# Altium schematic symbol library ISO.SchLib: 65 symbols
Pins are listed as number, name and electrical type; pins without a type are passive.

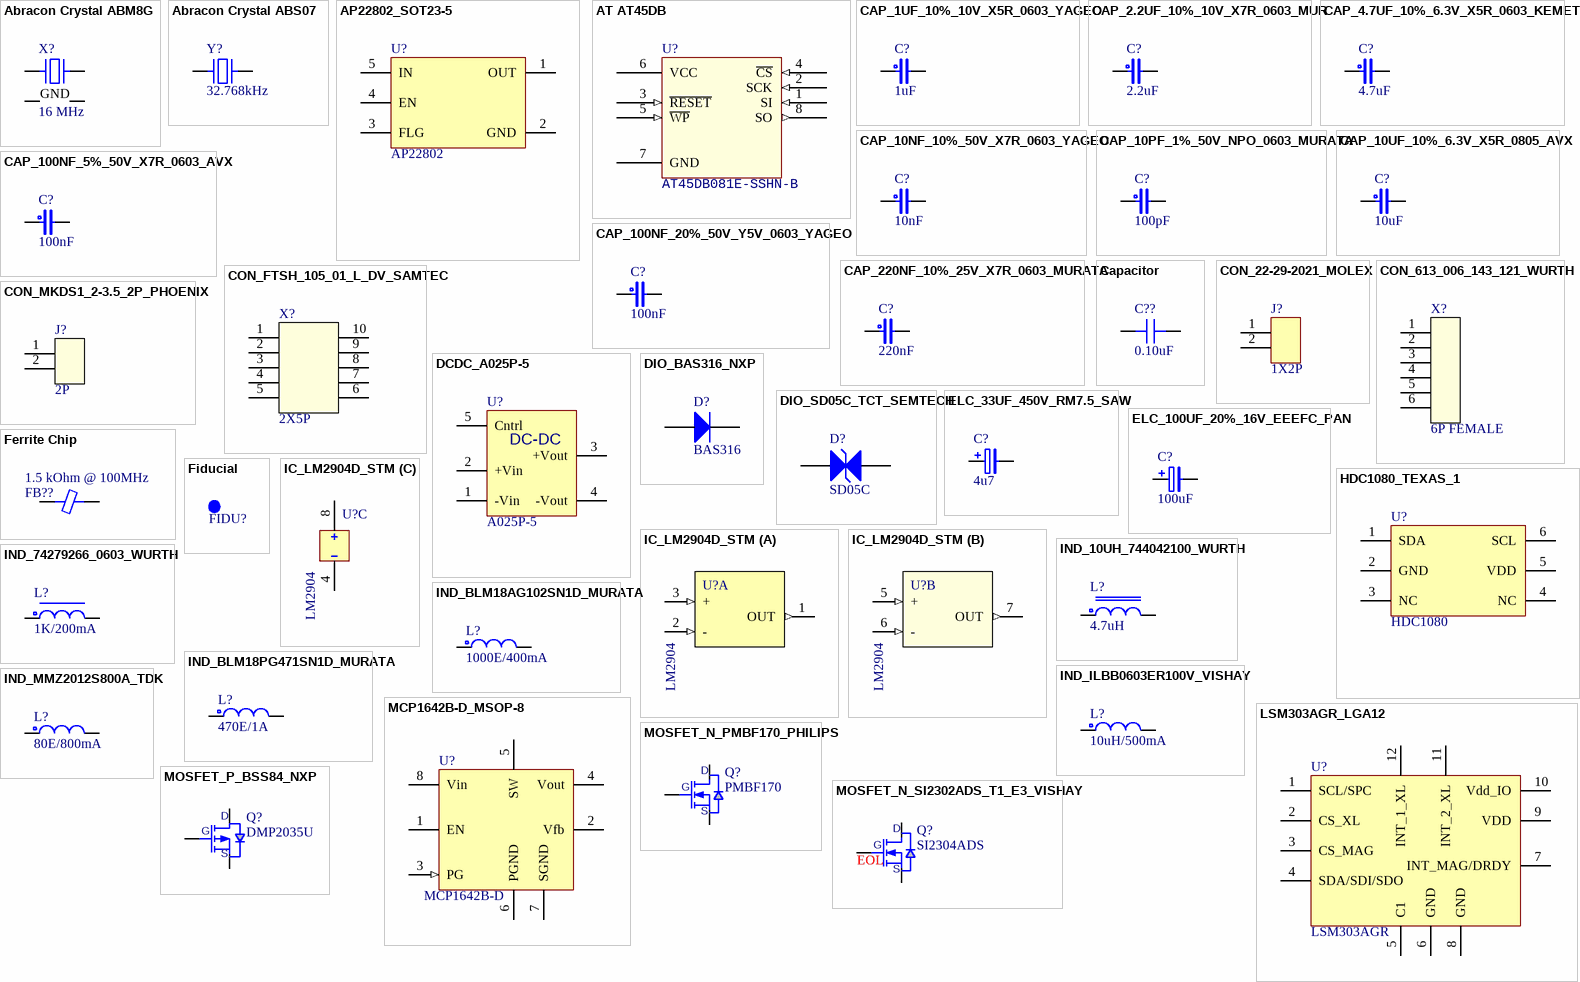
[diagram p0: symbols Abracon Crystal ABM8G to MOSFET_P_BSS84_NXP]

## Abracon Crystal ABM8G
designator X?, comment 16 MHz
CRYSTAL 16.0000MHZ 18PF SMD; Part Number: ABM8G-16.000MHZ-18-D2Y-T
footprint ABRACON ABM8G
pins: 1, 2 GND, 3, 4 GND

## Abracon Crystal ABS07
designator Y?, comment 32.768kHz
CRYSTAL 32.7680KHZ 7PF SMD; Part Number: ABS07-32.768KHZ-7-T; Manufacturer: Abracon LLC; Frequency Tolerance: 20ppm; ESR: 70 kOhm; Operating Mode: Fundamental; PartId: 8488; Supplier 1: Digi-Key; Supplier Part Number 1: 535-9543-2-ND; ComponentLink1Description: Datasheet; ComponentLink1URL: http://www.abracon.com/Resonators/ABS07.pdf; ComponentLink2Description: Digi-Key Listing; ComponentLink2URL: http://www.digikey.com/product-detail/en/ABS07-32.768KHZ-7-T/535-9543-2-ND/1236859; Price: 0.3375; Type: kHz Crystal (Tuning Fork); Device Package: 2-SMD; Frequency: 32.768kHz; Frequency Stability: -; Load Capacitance: 7pF
footprint ABRACON ABS07
pins: 1, 2

## AP22802_SOT23-5
designator U?, comment AP22802
DIODES_AP22802_SOT23-5_TIN; ID: 260667; Altium Class: AAA058; UAC Item Group: ICSLIN; MFG: TIN; LCM Status: Mature; Item Ready: Yes; ArtGrpDescription: ICs; Pitch: 0.95; Description Full: 3.3V FIXED POSITIVE LDO REGULATOR  0.21V DROPOUT  PDSO5; Function: Diodes; NContacts: 5; MFO: AP22802; MFP: AP22802; ROHS: Yes; Mount: SMT; Value: AP22802; Case: SOT23-; Height: 1.45mm; Length: 3.05; Width: 1.75
footprint SOT95P280X145-5X60Y110C260N
pins: 1 OUT, 2 GND (power), 3 FLG, 4 EN, 5 IN (power)

## AT AT45DB
designator U?  Part Number: AT45DB081E-SSHN-B  (hidden comment: AT AT45DB)
8Mbit DataFlash; Manufacturer: Adesto Technologies; PartId: 2469; Supplier 1: Farnell; Supplier Part Number 1: 2414321
footprint SOIC-8
pins: 1 SI (in), 2 SCK (in), 3 ~{RESET} (in), 4 ~{CS} (in), 5 ~{WP} (in), 6 VCC (power), 7 GND (power), 8 SO (out)

## CAP_1UF_10%_10V_X5R_0603_YAGEO
designator C?, comment 1uF
CAPACITORS X5R 10V 0603 10%; Manufacturer: YAGEO; UAC: 412415758; Bin_no: CC0603KRX5R6BB105; Revision: 12-12-2011; Material: X5R; Tolerance: 10%; Voltage: 10V; Value: 1uF; Package: 0603; Status: CHECKED; Created by: WB
footprint CAPC1608X90X95Y100C150N (Chip Capacitor, 2-Leads, Body 1.6x0.8mm, IPC Medium Density)
pins: 1, 2

## CAP_2.2UF_10%_10V_X7R_0603_MUR
designator C?, comment 2.2uF
CAPACITORS X7R  10V 0603 +/- 10%; Manufacturer: MURATA; UAC: 412343884; Bin_no: GRM188R71A225KE15B; Revision: 29-11-2010; Material: X7R; Tolerance: 10%; Value: 2.2uF; Package: 0603; Status: CHECKED; Created by: CW; Voltage: 10V
footprint CAPC1608X90X95Y90C150N (Chip Capacitor, 2-Leads, Body 1.6x0.8mm, IPC Medium Density)
pins: 1, 2

## CAP_4.7UF_10%_6.3V_X5R_0603_KEMET
designator C?, comment 4.7uF
CAPACITORS X5R 6.3V 0603 +/- 10%; Manufacturer: KEMET; UAC: 412389370; Bin_no: C0603C475K9-PAC; Revision: 25-06-2010; Material: X5R; Voltage: 6.3V; Value: 4.7uF; Status: CHECKED; Package: 0603; Tolerance: 10%
footprint CAPC1608X90X100Y95C160N (Footprint not found)
pins: 1, 2

## CAP_10NF_10%_50V_X7R_0603_YAGEO
designator C?, comment 10nF
CAPACITORS X7R  50V 0603 +/- 10%; Manufacturer: YAGEO; UAC: 411414189; Shape: 0603; Bin_no: 2238 586 15636; Revision: 18-04-2008; Material: X7R; Tolerance: 10%; Voltage: 50V; Value: 10nF; Status: CHECKED; Package: 0603; Created by: CW
footprint CAPC1608X85N (Chip Capacitor, Body 1.6x0.8mm, IPC Medium Density)
pins: 1, 2

## CAP_10PF_1%_50V_NPO_0603_MURATA
designator C?, comment 100pF
CAPACITORS NPO 50V  0603 +/- 1%; Manufacturer: MURATA; Material: NP0; UAC: 412342849; Bin_no: GQM1885C1H100FB01D; Revision: 28-03-2011; Voltage: 50V; Value: 100pF; Package: 0603; Status: CHECKED; Created by: FC; Tolerance: 1%
footprint CAPC1608X90X95Y90C150N (Chip Capacitor, 2-Leads, Body 1.6x0.8mm, IPC Medium Density)
pins: 1, 2

## CAP_10UF_10%_6.3V_X5R_0805_AVX
designator C?, comment 10uF
CAPACITORS X5R 6.3V 0805 +/- 10%; Manufacturer: AVX; UAC: 412158013; Bin_no: 08056D106KAT2A; Published: augustus 2007; Revision: 31-10-2007; Publisher: Neways; Material: X5R; Tolerance: 10%; Voltage: 6.3V; Value: 10uF; Package: 0805; Status: CHECKED
footprint CAPC2012X140N (Chip Capacitor, 2-Leads, Body 2.0x1.25mm, IPC Medium Density)
pins: 1, 2

## CAP_100NF_5%_50V_X7R_0603_AVX
designator C?, comment 100nF
CAPACITORS X7R 50V  0603 +/- 5%; Manufacturer: AVX; UAC: 412346854; Bin_no: 06035C104JAT2A; Revision: 31-07-2009; Material: X7R; Voltage: 50V; Value: 100nF; Package: 0603; Status: CHECKED; Created by: CW; Tolerance: 5%
footprint CAPC1608X90X100Y95C80N (Chip Capacitor, Body 1.6x0.6mm, IPC Medium Density)
pins: 1, 2

## CAP_100NF_20%_50V_Y5V_0603_YAGEO
designator C?, comment 100nF
CAPACITORS Y5V  50V 0603 +/- 10%; Manufacturer: YAGEO; Tolerance: 20%; UAC: 411519532; Bin_no: 2238 586 19712; Published: augustus 2007; Revision: 31-10-2007; Publisher: Neways; Material: Y5V; Voltage: 50V; Value: 100nF; Package: 0603; Status: CHECKED
footprint CAPC1608X85N (Chip Capacitor, Body 1.6x0.8mm, IPC Medium Density)
pins: 1, 2

## CAP_220NF_10%_25V_X7R_0603_MURATA
designator C?, comment 220nF
CAPACITORS X7R 25V 0603 +/- 10%; Manufacturer: MURATA; UAC: 412357782; Bin_no: GCM188R71E224KA55D; Revision: 04-09-2008; Material: X7R; Tolerance: 10%; Voltage: 25V; Value: 220nF; Package: 0603; Status: CHECKED
footprint CAPC1608X90N (Chip Capacitor, 2-Leads, Body 1.6x0.8mm, IPC Medium Density)
pins: 1, 2

## Capacitor
designator C??, comment 0.10uF
CAP CER 0.1UF 16V X7R 0603; Part Number: GCM188R71C104KA37D; Manufacturer: Murata Electronics North America; TemperatureRange: -55C ~ 125C; Tolerance: 10%; Value: 0.10uF; PartId: 13188; Supplier 1: Digi-Key; Supplier Part Number 1: 490-4774-2-ND; ComponentLink1Description: Datasheet; ComponentLink1URL: http://www.murata.com/~/media/webrenewal/support/library/catalog/products/capacitor/mlcc/c03e.ashx; ComponentLink2Description: Digi-Key Listing; ComponentLink2URL: https://www.digikey.com/product-detail/en/murata-electronics-north-america/GCM188R71C104KA37D/490-4774-2-ND/1641648; TemperatureCoefficient: X7R; Voltage: 16V; Price: 0.0126; Device Package: 0603 (1608 Metric)
footprint CAP 0603/1608
pins: 1, 2

## CON_22-29-2021_MOLEX
designator J?, comment 1X2P
KK HEADER PITCH 2.54MM 2P; Manufacturer: MOLEX; UAC: 412179803; Revision: 28-01-2013; Bin_no: 22-29-2021; Value: 1X2P; Status: CHECKED; Created by: FC; Package: CON_22-29-2021_2P_MOLEX
footprint CON_BSB2-JST-TH (2.0 mm PITCH WIRE-TO-BOARD HEADER)
pins: 1, 2

## CON_613_006_143_121_WURTH
designator X?, comment 6P FEMALE
2.54mm ANGLED SOCKET HEADER WR-PHD; Manufacturer: WURTH; UAC: 412360973; Bin_no: 613 006 143 121; Package: CON_613_006_143_121_WURTH; Status: CHECKED; Value: 6P FEMALE; Revision: 26-11-2008; Created by: CW
footprint CON_613_006_143_121_WURTH (2.54mm ANGLED SOCKET HEADER WR-PHD)
pins: 1, 2, 3 (power), 4 (power), 5 (power), 6 (power)

## CON_FTSH_105_01_L_DV_SAMTEC
designator X?, comment 2X5P
HEADER SMD STRAIGHT UP 2X5P 1.27mm; Manufacturer: SAMTEC; UAC: 412262550; Bin_no: FTSH-105-01-L-DV; Package: CON_FTSH_105_01_L_DV; Status: CHECKED; Value: 2X5P; Revision: 18-09-2009; Created by: CW
footprint CON_FTSH_105_01_L_DV (DIN STANDARD HEADER TYPE FTSH 2X5P)
pins: 1, 2, 3, 4, 5, 6, 7, 8, 9, 10

## CON_MKDS1_2-3.5_2P_PHOENIX
designator J?, comment 2P
TERMINAL BLOCK MKDS1/2-3,5 HT BK 2P; Manufacturer: PHOENIX; UAC: 412472720; Bin_no: 1985807; Package: CON_MKDS1_2-3.5-2P_PHOE; Status: CHECKED; Value: 2P; Revision: 24-11-2010; Created by: CW
footprint CON_MKDS1_2-3.5-2P_PHOE (TERMINAL BLOCK MKDS1/2-3,5 HT BK)
pins: 1, 2

## DCDC_A025P-5
designator U?, comment A025P-5
CONVERTER_A025P-5; Warning: RoHS Exemp; ID: 20205; UAC: 411435993; Altium Class: AAA058; UAC Item Group: MOTPWR; MFG: MUPOSO; MFO: NME0505SC; LCM Status: Mature; Item Ready: Yes; ArtGrpDescription: MODPt; Case metric: 11.48x6x10; Current: 200mA; Description Full: 1-OUTPUT 1 W DC-DC REG PWR SUPPLY MODULE; MaxDissipation: 1W; NContacts: 4; Voltage DC: 5V; MFP: NME0505SC; ROHS: Yes; ROHS Exemptions: 7(c)-I; Mount: THT; Value: A025P-5; Case: SIP-; Category: SOLDER; Function: CONVERTER; Height: 10mm; Length: 11.48; Width: 6.00; Voltage IN: 5V; Voltage OUT: 5V
footprint XP-EMCO<2000V (5 Leads; Body 23.37x 11.43mm (LxW typ);)
pins: 1 -Vin, 2 +Vin, 3 +Vout, 4 -Vout, 5 Cntrl
text: DC-DC

## DIO_BAS316_NXP
designator D?, comment BAS316
HIGH SPEED DIODE; Manufacturer: NXP; Bin_no: 9340 549 45115; UAC: 412082837; Revision: 05-01-2011; Package: SOD323; Status: CHECKED; Value: BAS316; Created by: CW
footprint SOD2513X110X50Y90C260N (SOD323 Body 1.8 x 1.3mm height 1.1mm)
pins: 1, 2

## DIO_SD05C_TCT_SEMTECH
designator D?, comment SD05C
SINGLE LINE TVS DIODE FOR ESD PROTECTION IN PORTABLE ELECTRONICS; Manufacturer: SEMTECH; UAC: 420254694; Bin_no: SD05C.TCT; Voltage: 5V; Revision: 27-01-2014; Value: SD05C; Status: CHECKED; Package: SOD323; Created by: FC
footprint DIO_SD05C_TCT_SEMTECH (Diode, Body; 1.8mm L(max) X 1.4mm(max) W X 1.1 mm (max) H)
pins: 1, 2

## ELC_33UF_450V_RM7.5_SAW
designator C?, comment 4u7
CAPACITOR, ALUMINUM ELECTROLYTIC, NON SOLID, POLARIZED, 450 V, 33 uF, THROUGH HOLE MOUNT; Manufacturer: SAMWHA; Tolerance: 20%; Voltage: 450V; Bin_no: WL2W336M16025PA; UAC: 412456348; Revision: 29-11-2010; Package: CAPPRD750W80D1600H3150P; Value: 4u7; Status: CHECKED
footprint CAPPRD500W60D1000H1750P (ALUMINIUM ELECTROLYTIC CAPACITOR 10 X 16 mm)
pins: 1, 2

## ELC_100UF_20%_16V_EEEFC_PAN
designator C?, comment 100uF
ALUMINIUM CAPACITOR FC SERIES; Manufacturer: PANASONIC; UAC: 411164749; Voltage: 16V; Bin_no: EEEFC1C101P; Value: 100uF; Package: CASE-E; Status: CHECKED; Revision: 13-02-2008; MFO: EEEFC1C101P; Created by: CW
footprint CAPAE830X950X160Y425C650N (Capacitor,Aluminum Electrolytic;8.30mm L X 8.30mm W X 9.50mm H)
pins: 1, 2

## Ferrite Chip
designator FB??, comment 1.5 kOhm @ 100MHz
FERRITE CHIP 1500 OHM 300MA 0603; Part Number: MMZ1608Y152CTA00; Manufacturer: TDK Corporation; Type: Differential Mode - Single; DC Resistance: 500 mOhm Max; PartId: 6586; Value: 1.5 kOhm @ 100MHz; Supplier 1: Digi-Key; Supplier Part Number 1: 445-172732-2-ND; ComponentLink1Description: Datasheet; ComponentLink1URL: https://product.tdk.com/info/en/catalog/datasheets/beads_commercial_signal_mmz1608_en.pdf; ComponentLink2Description: Digi-Key listing; ComponentLink2URL: http://digikey.com/product-detail/en/MMZ1608Y152CTA00/445-172732-2-ND/1967584; Price: 0.023; Device Package: 0603 (1608 Metric); Current Rating: 300mA
footprint FER 0603/1608
pins: 1, 2

## Fiducial
designator FIDU?  (value not drawn)  (no BOM)
Fiducial round 1 mm x 3 mm; Part Number: VV-fidu1x3; Manufacturer: none; PartId: 2380
footprint Fiducial round 1mm x 3mm

## HDC1080_TEXAS_1
designator U?, comment HDC1080
HDC1080_SOT-6_TIN; ID: 481599; Altium Class: AAA058; UAC Item Group: ICSLIN; MFG: TIN; LCM Status: Mature; Item Ready: Yes; ArtGrpDescription: ICs; Case metric: 2.9x1.6x1.; Function: Texas Instr; NContacts: 6; MFO: HDC1080; MFP: HDC1080; ROHS: Yes; Mount: SMT; Value: HDC1080; Case: SOT-; Height: 1.1mm; Length: 2.9; Width: 1.6
footprint 6-Pin PWSON (WSON 3.1x3.1x0.8)
pins: 1 SDA, 2 GND (power), 3 NC, 4 NC, 5 VDD (power), 6 SCL

## IC_LM2904D_STM
designator U?, comment LM2904
LOW  POWER DUAL OPERATIONAL AMPLIFIER; Manufacturer: STM; Bin_no: LM2904D; UAC: 411177886; Package: SO8; Status: CHECKED; Value: LM2904; Revision: 14-03-2008; Created by: CW
footprint SOIC127P600X175-8N (SOIC, 8-Leads, Body .5x4mm (max), Pitch 1.27mm, IPC Medium Density)
part A pins: 1 OUT (out), 2 - (in), 3 + (in)
part B pins: 5 + (in), 6 - (in), 7 OUT (out)
part C pins: 4 GND (power), 8 VCC (power)

## IND_10UH_744042100_WURTH
designator L?, comment 4.7uH
POWER CHOKE WE-TPC-M; Manufacturer: WURTH; UAC: 412423241; Current: 1.3mA; Bin_no: 744042100; Revision: 26-07-2012; Value: 4.7uH; Package: WE-TPC-M; Status: CHECKED; Created by: CW
footprint IND_WE_TPC_M_WURTH (POWER-CHOKE WE-TPC-M)
pins: 1, 2

## IND_74279266_0603_WURTH
designator L?, comment 1K/200mA
FERRITE BEADS 1K/200mA 0603; Manufacturer: WURTH; Bin_no: 74279266; Imp.: 1K; UAC: 412232881; Revision: 28-03-2011; Package: 0603; Value: 1K/200mA; Status: CHECKED; Created by: CW
footprint INDC1608X100X100Y95C160N (Chip Inductor, 2-Leads, Body 1.6x0.8mm, IPC Medium Density)
pins: 1, 2

## IND_BLM18AG102SN1D_MURATA
designator L?, comment 1000E/400mA
FERRITE BEADS 1000E/400mA; Manufacturer: MURATA; Bin_no: BLM18AG102SN1D; Imp.: 1000E; UAC: 412058276; Revision: 02-07-2009; Package: 0603; Value: 1000E/400mA; Status: CHECKED; Created by: WB
footprint INDC1608X95X100Y100C150N (Chip Inductor, 2-Leads, Body 1.6x0.8mm, IPC Medium Density)
pins: 1, 2

## IND_BLM18PG471SN1D_MURATA
designator L?, comment 470E/1A
FERRITE BEADS 470E/1A; Manufacturer: MURATA; Bin_no: BLM18PG471SN1D; Imp.: 470E; UAC: 412251578; Revision: 15-01-2009; Package: 0603; Value: 470E/1A; Status: CHECKED
footprint INDC1608X95X100Y100C150N (Chip Inductor, 2-Leads, Body 1.6x0.8mm, IPC Medium Density)
pins: 1, 2

## IND_ILBB0603ER100V_VISHAY
designator L?, comment 10uH/500mA
FERRITE BEADS 10uH 0E05/500mA; Manufacturer: VISHAY; Bin_no: ILBB0603ER100V; Imp.: 0E05; UAC: 412402680; Revision: 27-04-2009; Package: 0603; Value: 10uH/500mA; Status: CHECKED; Created by: WB
footprint INDC1608X95N (Chip Inductor, 2-Leads, Body 1.6x0.8mm, IPC Medium Density)
pins: 1, 2

## IND_MMZ2012S800A_TDK
designator L?, comment 80E/800mA
CHIP BEAD FOR SIGNAL LINE TYPE MMZ(0805); Manufacturer: TDK; Bin_no: MMZ2012S800A; Imp.: 80e; UAC: 412287713; Revision: 30-01-2008; Package: 0805; Value: 80E/800mA; Status: CHECKED
footprint INDC2012X110N (Chip Inductor, 2-Leads, Body 2.0x1.3mm, IPC Medium Density)
pins: 1, 2

## LSM303AGR_LGA12
designator U?, comment LSM303AGR
LSM303AGR_LGA12; ID: 103976; UAC Item Group: ICSLIN; MFG: TIN; LCM Status: Mature; Item Ready: Yes; ArtGrpDescription: ICs; Case metric: 2x2x1; Pitch: 0.5; Function: ST; NContacts: 8; MFO: LSM303AGR; MFP: LSM303AGR; ROHS: Yes; Mount: SMT; Value: LSM303AGR; Case: LGA-12; Height: 1.0; Length: 3; Width: 3
footprint LGA-12 (LGA_12 2x2x1mm)
pins: 1 SCL/SPC, 2 CS_XL, 3 CS_MAG, 4 SDA/SDI/SDO, 5 C1, 6 GND (power), 7 INT_MAG/DRDY, 8 GND (power), 9 VDD (power), 10 Vdd_IO, 11 INT_2_XL, 12 INT_1_XL

## MCP1642B-D_MSOP-8
designator U?, comment MCP1642B-D
MCP1642B-D_MSOP-8; ID: 103976; UAC Item Group: ICSLIN; MFG: TIN; LCM Status: Mature; Item Ready: Yes; ArtGrpDescription: ICs; Case metric: 3x3x1.1mm; Pitch: 0.65; Function: Microchip; NContacts: 8; MFO: MCP1642B-D; MFP: MCP1642B-D; ROHS: Yes; Mount: SMT; Value: MCP1642B-D; Case: MSOP-; Height: 1.1mm; Length: 3; Width: 3
footprint SOP65P490X110-8X45Y145C440N
pins: 1 EN, 2 Vfb, 3 PG (in), 4 Vout (power), 5 SW, 6 PGND (power), 7 SGND (power), 8 Vin (power)

## MOSFET_N_PMBF170_PHILIPS
designator Q?, comment PMBF170
N-CHANNEL ENHANCEMENT MODE FET; Manufacturer: PHILIPS; UAC: 411173123; Bin_no: 9339 663 40215; Revision: 16-06-2009; Package: SOT23; Value: PMBF170; Status: CHECKED; Created by: CW
footprint SOT95P230X110-3N (SOT23, 3-Leads, Body 3.0 x1.4mm, Pitch 0.95mm, Lead Span 2.5mm, IPC Medium Density)
pins: 1 G, 2 S, 3 D

## MOSFET_N_SI2302ADS_T1_E3_VISHAY
designator Q?, comment SI2304ADS
N-CHANNEL 1.25-W , 2.5-V MOSFET; Manufacturer: IRF; UAC: 412262642; Bin_no: SI2304ADS-T1-E3; LCM: EOL; Revision: 06-02-2008; Package: TO-236(SOT-23); Value: SI2304ADS; Status: CHECKED; Created by: CW
footprint SOT95P237X112-3N (SOT,0.95mm pitch;3 pin,1.40mm W X 3.04mm L X 1.12mm H)
pins: 1 G, 2 S, 3 D

## MOSFET_P_BSS84_NXP
designator Q?, comment DMP2035U
P-CHANNEL ENHANCEMENT MODE DMOSFET; UAC: 411312133; Bin_no: 9339 463 60215; Revision: 05-12-201; Value: DMP2035U; Package: TO-263AB; Status: CHECKED; Created by: WB
footprint SOT95P230X110-3X60Y100C230N (SOT23, 3-Leads, Body 3.1x2.6mm (max), Pitch 0.95mm, IPC Medium Density)
pins: 1 G, 2 S, 3 D

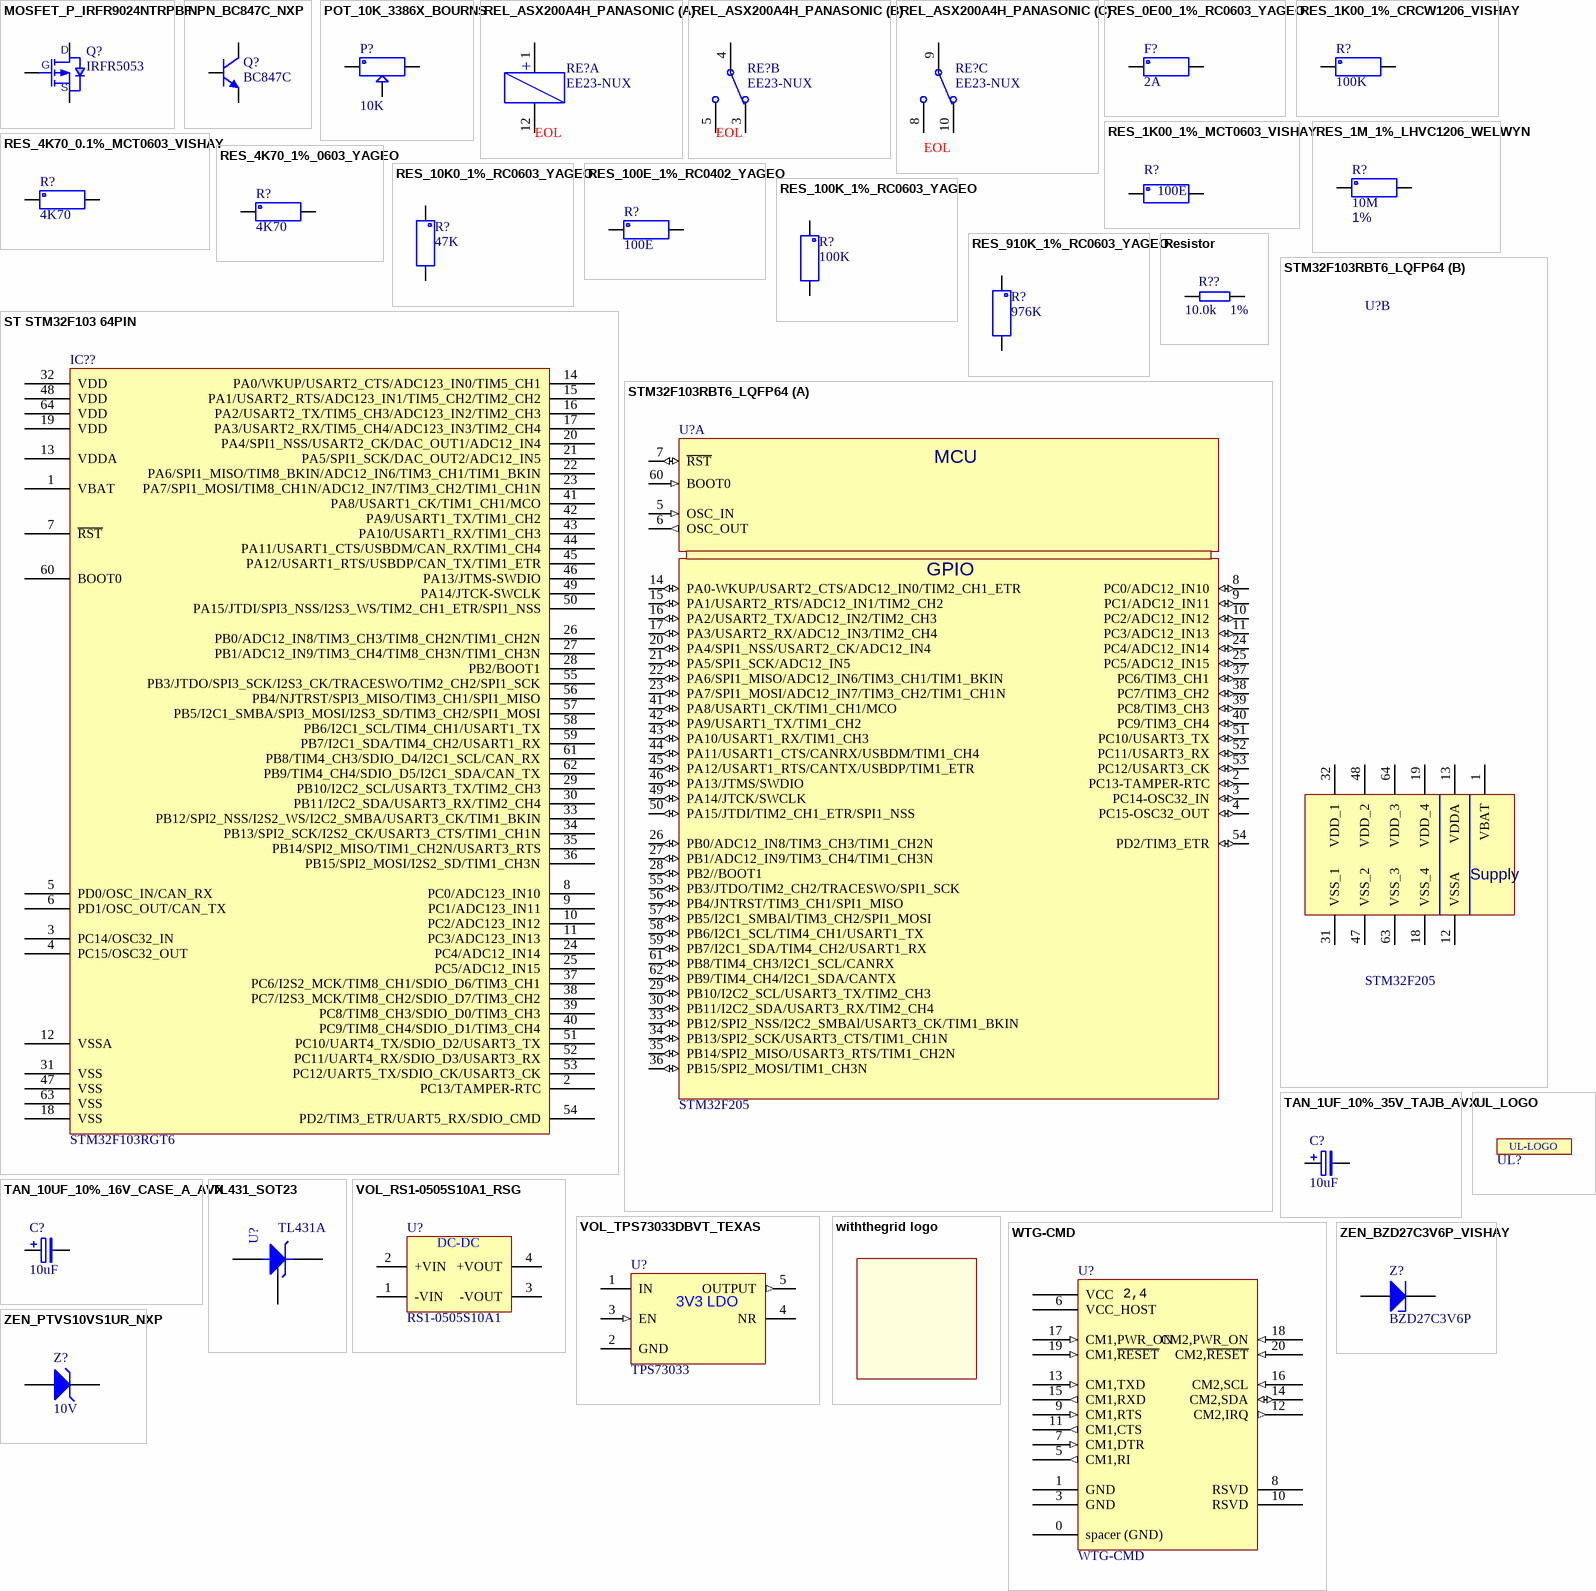
[diagram p1: symbols MOSFET_P_IRFR9024NTRPBF to ZEN_PTVS10VS1UR_NXP]

## MOSFET_P_IRFR9024NTRPBF
designator Q?, comment IRFR5053
P-CHANNEL HEXFET POWER MOSFET; UAC: 412370910; Revision: 10-11-2010; Value: IRFR5053; Bin_no: IRFR5053; Package: TO-252AA; Status: CHECKED; Created by: CW
footprint TO229P991X239-3X100Y285C6689N (TO,2.54mm pitch;2 pin,10.10mm W X 9.40mm L X 4.83mm H)
pins: 1 G, 2 S, 3 D

## NPN_BC847C_NXP
designator Q?, comment BC847C
NPN TRANSISTOR SOT23; Manufacturer: NXP; UAC: 411421606; Bin_no: 9335 896 00215; Revision: 31-10-2007; Value: BC847C; Package: SOT23; RoHs: Yes; Status: CHECKED
footprint SOT95P230X110-3X60Y100C230N (SOT23, 3-Leads, Body 3.1x2.6mm (max), Pitch 0.95mm, IPC Medium Density)
pins: 1, 2, 3

## POT_10K_3386X_BOURNS
designator P?, comment 10K
3386-3/8  SUQARE TRIMMING POTENTIOMETER; Manufacturer: BOURNS; UAC: 411136456; Bin_no: 3386X-1-103LF; Value: 10K; Package: 3386X; Status: CHECKED; Revision: 24-01-2008
footprint TRIM_3386X_BOURNS (3386 3/8 SQUARE TRIM POTMETER)
pins: 1, 2, 3

## REL_ASX200A4H_PANASONIC
designator RE?, comment EE23-NUX
SLIM POLARIZED RELAY; Manufacturer: KEMET; UAC: 412415666; Status: CHECKED; Bin_no: EE23-NUX; Revision: 04-09-2009; Created by: MDP; Package: REL_ASX200A4H_PAN; Value: EE23-NUX
footprint REL_ASX200A4H_PAN (SX RELAYS (ASX) SURF MOUNTED)
part A pins: 1, 12 - (power)
part B pins: 3 NC, 4 C, 5 NO
part C pins: 8 NO, 9 C, 10 NC
part A text: +; EOL
part B text: EOL
part C text: EOL

## RES_0E00_1%_RC0603_YAGEO
designator F?, comment 2A
FIXRST RC22  1% 0.1W; Manufacturer: YAGEO; UAC: 411477818; Bin_no: RC0603FR-070RL; Revision: 15-05-2008; Value: 2A; Status: CHECKED; Package: RC0603; Tolerance: 1%; Created by: CW
footprint RESC1608X55N (Chip Resistor, Body 1.6x0.8mm, IPC Medium Density)
pins: 1, 2

## RES_1K00_1%_CRCW1206_VISHAY
designator R?, comment 100K
CHIP RESISTOR 0.25W 1% 1206; Manufacturer: VISHAY; UAC: 411477658; Bin_no: CRCW12061K00FKEA; Value: 100K; Package: CRCW1206; Status: CHECKED; Revision: 11-11-2010; Created by: CW; Tolerance: 1%
footprint RESC3216X60X180Y105C300N (Chip Resistor, 2-Leads, Body 3.2x1.6mm, IPC Medium Density)
pins: 1, 2

## RES_1K00_1%_MCT0603_VISHAY
designator R?, comment 100E
THIN FILM CHIP RESISTOR 0.1W +/- 1% 75V0; Manufacturer: VISHAY; UAC: 411438611; Bin_no: 2312 215 11002; Value: 100E; Package: MCT0603; Status: CHECKED; Revision: 09-01-2009; Created by: WB; Tolerance: 1%
footprint RESC1608X55N (Chip Resistor, Body 1.6x0.8mm, IPC Medium Density)
pins: 1, 2

## RES_1M_1%_LHVC1206_WELWYN
designator R?, comment 10M  Tolerance: 1%
LOW RANGE HIGH VOLTAGE CHIP RESISTORS; Manufacturer: WELWYN; UAC: 420248563; Bin_no: LHVC1206-1MFT5; Value: 10M; Package: 1206; Status: CHECKED; Revision: 12-11-2013; Created by: FC
footprint RESC3116X65X175Y105C290N (Chip Resistor, 2-Leads, Body 3.1x1.6mm, IPC Medium Density)
pins: 1, 2

## RES_4K70_0.1%_MCT0603_VISHAY
designator R?, comment 4K70
THIN FILM CHIP RESISTOR 0.1W +/- 0.1% 25V0; Manufacturer: VISHAY; UAC: 412362502; Bin_no: 2312 217 74702; Value: 4K70; Package: MCT0603; Status: CHECKED; Revision: 08-12-2008; Created by: CW; Tolerance: 0.1%
footprint RESC1608X55N (Chip Resistor, Body 1.6x0.8mm, IPC Medium Density)
pins: 1, 2

## RES_4K70_1%_0603_YAGEO
designator R?, comment 4K70
FIXRST RC22  1% 0.1W; Manufacturer: YAGEO; UAC: 411053241; Bin_no: 2322 704 64702L; Value: 4K70; Package: 0603; Status: CHECKED; Revision: 11-02-2008; MFO: 2322 704 64702L; Created by: CW
footprint RESC1608X55N (Chip Resistor, Body 1.6x0.8mm, IPC Medium Density)
pins: 1, 2

## RES_10K0_1%_RC0603_YAGEO
designator R?, comment 47K
FIXRST RC22  1% 0.1W; Manufacturer: YAGEO; UAC: 411110029; Bin_no: RC0603FR-0710KL; Revision: 29-01-2008; Value: 47K; Status: CHECKED; Package: RC0603; Tolerance: 1%
footprint RESC1608X55N (Chip Resistor, Body 1.6x0.8mm, IPC Medium Density)
pins: 1, 2

## RES_100E_1%_RC0402_YAGEO
designator R?, comment 100E
FIXRST RC0402  1% 0.063W 100PPM; Manufacturer: YAGEO; UAC: 411100570; Bin_no: RC0402FR-07100RL; Value: 100E; Package: RC0402; Status: CHECKED; Revision: 11-11-2010; Created by: WB
footprint RESC1005X40X62Y60C92N (Chip Resistor, 2-Leads, Body 1.1x0.5mm, IPC Medium Density)
pins: 1, 2

## RES_100K_1%_RC0603_YAGEO
designator R?, comment 100K
FIXRST RC22  1% 0.1W; Manufacturer: YAGEO; UAC: 411111163; Bin_no: RC0603FR-07100KL; Revision: 29-01-2008; Value: 100K; Status: CHECKED; Package: RC0603; Tolerance: 1%
footprint RESC1608X55N (Chip Resistor, Body 1.6x0.8mm, IPC Medium Density)
pins: 1, 2

## RES_910K_1%_RC0603_YAGEO
designator R?, comment 976K
FIXRST RC22  1% 0.1W; Manufacturer: YAGEO; UAC: 411112269; Bin_no: RC0603FR-07910KL; Revision: 28-11-2012; Value: 976K; Status: CHECKED; Package: RC0603; Tolerance: 1%; Created by: CW
footprint RESC1608X55N (Chip Resistor, Body 1.6x0.8mm, IPC Medium Density)
pins: 1, 2

## Resistor
designator R??  value 10.0k  Tolerance: 1%  (hidden comment: Resistor)
RES SMD; Part Number: MC0063W0603110K; Manufacturer: Multicomp; TemperatureRange: -55C ~ 155C; TemperatureCoefficient: 100ppm/C; PowerRating: 63.0 mW; PartId: 1640; Supplier 1: Farnell; Supplier Part Number 1: 9330399; ComponentLink1Description: Datasheet; ComponentLink1URL: http://www.farnell.com/datasheets/1788326.pdf; Type: Thick Film; Device Package: 0603 (1608 Metric)
footprint RES 0603/1608
pins: 1, 2

## ST STM32F103 64PIN
designator IC??, comment STM32F103RGT6
IC MCU 32BIT 1MB FLASH 64LQFP; Manufacturer: STMicroelectronics; Core Processor: ARM Cortex-M3; Core Size: 32-Bit; Speed: 72MHz; Connectivity: CAN, IC, IrDA, LIN, SPI, UART/USART, USB; Peripherals: DMA, Motor Control PWM, PDR, POR, PVD, PWM, Temp Sensor, WDT; Number Of IO: 51; Program Memory Size: 1MB (1M x 8); Ram Size: 96K x 8; Voltage: 2 V ~ 3.6 V; Data Converters: A/D 16x12b; D/A 2x12b; Oscillator Type: Internal; Part Number: STM32F103RGT6; PartId: 21156; Supplier 1: Digi-Key; Supplier Part Number 1: 497-11118-ND; ComponentLink1Description: Datasheet; ComponentLink1URL: http://www.st.com/content/ccc/resource/technical/document/datasheet/01/c1/9e/ad/b3/21/4b/d3/CD00253742.pdf/files/CD00253742.pdf/jcr:content/translations/en.CD00253742.pdf; ComponentLink2Description: Digi-Key Listing; ComponentLink2URL: https://www.digikey.com/product-detail/en/stmicroelectronics/STM32F103RGT6/497-11118-ND/2529307; Price: 11.36; Device Package: 64-LQFP; Series: STM32 F1; Program Memory Type: FLASH
footprint ST LQFP-64 10x10mm
pins: 1 VBAT, 2 PC13/TAMPER-RTC, 3 PC14/OSC32_IN, 4 PC15/OSC32_OUT, 5 PD0/OSC_IN/CAN_RX, 6 PD1/OSC_OUT/CAN_TX, 7 ~{RST} "NRST", 8 PC0/ADC123_IN10, 9 PC1/ADC123_IN11, 10 PC2/ADC123_IN12, 11 PC3/ADC123_IN13, 12 VSSA, 13 VDDA, 14 PA0/WKUP/USART2_CTS/ADC123_IN0/TIM5_CH1, 15 PA1/USART2_RTS/ADC123_IN1/TIM5_CH2/TIM2_CH2, 16 PA2/USART2_TX/TIM5_CH3/ADC123_IN2/TIM2_CH3, 17 PA3/USART2_RX/TIM5_CH4/ADC123_IN3/TIM2_CH4, 18 VSS, 19 VDD, 20 PA4/SPI1_NSS/USART2_CK/DAC_OUT1/ADC12_IN4, 21 PA5/SPI1_SCK/DAC_OUT2/ADC12_IN5, 22 PA6/SPI1_MISO/TIM8_BKIN/ADC12_IN6/TIM3_CH1/TIM1_BKIN, 23 PA7/SPI1_MOSI/TIM8_CH1N/ADC12_IN7/TIM3_CH2/TIM1_CH1N, 24 PC4/ADC12_IN14, 25 PC5/ADC12_IN15, 26 PB0/ADC12_IN8/TIM3_CH3/TIM8_CH2N/TIM1_CH2N, 27 PB1/ADC12_IN9/TIM3_CH4/TIM8_CH3N/TIM1_CH3N, 28 PB2/BOOT1, 29 PB10/I2C2_SCL/USART3_TX/TIM2_CH3, 30 PB11/I2C2_SDA/USART3_RX/TIM2_CH4, 31 VSS, 32 VDD, 33 PB12/SPI2_NSS/I2S2_WS/I2C2_SMBA/USART3_CK/TIM1_BKIN, 34 PB13/SPI2_SCK/I2S2_CK/USART3_CTS/TIM1_CH1N, 35 PB14/SPI2_MISO/TIM1_CH2N/USART3_RTS, 36 PB15/SPI2_MOSI/I2S2_SD/TIM1_CH3N, 37 PC6/I2S2_MCK/TIM8_CH1/SDIO_D6/TIM3_CH1, 38 PC7/I2S3_MCK/TIM8_CH2/SDIO_D7/TIM3_CH2, 39 PC8/TIM8_CH3/SDIO_D0/TIM3_CH3, 40 PC9/TIM8_CH4/SDIO_D1/TIM3_CH4, 41 PA8/USART1_CK/TIM1_CH1/MCO, 42 PA9/USART1_TX/TIM1_CH2, 43 PA10/USART1_RX/TIM1_CH3, 44 PA11/USART1_CTS/USBDM/CAN_RX/TIM1_CH4, 45 PA12/USART1_RTS/USBDP/CAN_TX/TIM1_ETR, 46 PA13/JTMS-SWDIO, 47 VSS, 48 VDD, 49 PA14/JTCK-SWCLK, 50 PA15/JTDI/SPI3_NSS/I2S3_WS/TIM2_CH1_ETR/SPI1_NSS, 51 PC10/UART4_TX/SDIO_D2/USART3_TX, 52 PC11/UART4_RX/SDIO_D3/USART3_RX, 53 PC12/UART5_TX/SDIO_CK/USART3_CK, 54 PD2/TIM3_ETR/UART5_RX/SDIO_CMD, 55 PB3/JTDO/SPI3_SCK/I2S3_CK/TRACESWO/TIM2_CH2/SPI1_SCK, 56 PB4/NJTRST/SPI3_MISO/TIM3_CH1/SPI1_MISO, 57 PB5/I2C1_SMBA/SPI3_MOSI/I2S3_SD/TIM3_CH2/SPI1_MOSI, 58 PB6/I2C1_SCL/TIM4_CH1/USART1_TX, 59 PB7/I2C1_SDA/TIM4_CH2/USART1_RX, 60 BOOT0, 61 PB8/TIM4_CH3/SDIO_D4/I2C1_SCL/CAN_RX, 62 PB9/TIM4_CH4/SDIO_D5/I2C1_SDA/CAN_TX, 63 VSS, 64 VDD

## STM32F103RBT6_LQFP64
designator U?, comment STM32F205
IC PROGRAMMABLE - MICROCONTROLLER_STM32F103_LQFP-64_STM; ID: 440449; UAC: 420255523; Altium Class: AAA070; UAC Item Group: ICSLIN; MFG: STM; MFO: STM32F205RGT; LCM Status: Mature; Item Ready: Yes; ArtGrpDescription: ICs; Case metric: 10x10x1.6M; Description Full: 32-BIT  FLASH  72 MHz  RISC MICROCONTROLLER  PQFP64; NContacts: 64; MFP: STM32F205; ROHS: Yes; Mount: SMT; Value: STM32F205; Case: LQFP-; Function: IC PROGRAMMABLE - MICROCONTROLLER; Height: 1.6; Length: 10; Width: 10
footprint QFP50P1200X1200X160-64X30Y150C1140N
part A pins: 2 PC13-TAMPER-RTC (io), 3 PC14-OSC32_IN (io), 4 PC15-OSC32_OUT (io), 5 OSC_IN (in), 6 OSC_OUT (out), 7 ~{RST} (io), 8 PC0/ADC12_IN10 (io), 9 PC1/ADC12_IN11 (io), 10 PC2/ADC12_IN12 (io), 11 PC3/ADC12_IN13 (io), 14 PA0-WKUP/USART2_CTS/ADC12_IN0/TIM2_CH1_ETR (io), 15 PA1/USART2_RTS/ADC12_IN1/TIM2_CH2 (io), 16 PA2/USART2_TX/ADC12_IN2/TIM2_CH3 (io), 17 PA3/USART2_RX/ADC12_IN3/TIM2_CH4 (io), 20 PA4/SPI1_NSS/USART2_CK/ADC12_IN4 (io), 21 PA5/SPI1_SCK/ADC12_IN5 (io), 22 PA6/SPI1_MISO/ADC12_IN6/TIM3_CH1/TIM1_BKIN (io), 23 PA7/SPI1_MOSI/ADC12_IN7/TIM3_CH2/TIM1_CH1N (io), 24 PC4/ADC12_IN14 (io), 25 PC5/ADC12_IN15 (io), 26 PB0/ADC12_IN8/TIM3_CH3/TIM1_CH2N (io), 27 PB1/ADC12_IN9/TIM3_CH4/TIM1_CH3N (io), 28 PB2//BOOT1 (io), 29 PB10/I2C2_SCL/USART3_TX/TIM2_CH3 (io), 30 PB11/I2C2_SDA/USART3_RX/TIM2_CH4 (io), 33 PB12/SPI2_NSS/I2C2_SMBAl/USART3_CK/TIM1_BKIN (io), 34 PB13/SPI2_SCK/USART3_CTS/TIM1_CH1N (io), 35 PB14/SPI2_MISO/USART3_RTS/TIM1_CH2N (io), 36 PB15/SPI2_MOSI/TIM1_CH3N (io), 37 PC6/TIM3_CH1 (io), 38 PC7/TIM3_CH2 (io), 39 PC8/TIM3_CH3 (io), 40 PC9/TIM3_CH4 (io), 41 PA8/USART1_CK/TIM1_CH1/MCO (io), 42 PA9/USART1_TX/TIM1_CH2 (io), 43 PA10/USART1_RX/TIM1_CH3 (io), 44 PA11/USART1_CTS/CANRX/USBDM/TIM1_CH4 (io), 45 PA12/USART1_RTS/CANTX/USBDP/TIM1_ETR (io), 46 PA13/JTMS/SWDIO (io), 49 PA14/JTCK/SWCLK (io), 50 PA15/JTDI/TIM2_CH1_ETR/SPI1_NSS (io), 51 PC10/USART3_TX (io), 52 PC11/USART3_RX (io), 53 PC12/USART3_CK (io), 54 PD2/TIM3_ETR (io), 55 PB3/JTDO/TIM2_CH2/TRACESWO/SPI1_SCK (io), 56 PB4/JNTRST/TIM3_CH1/SPI1_MISO (io), 57 PB5/I2C1_SMBAl/TIM3_CH2/SPI1_MOSI (io), 58 PB6/I2C1_SCL/TIM4_CH1/USART1_TX (io), 59 PB7/I2C1_SDA/TIM4_CH2/USART1_RX (io), 60 BOOT0 (in), 61 PB8/TIM4_CH3/I2C1_SCL/CANRX (io), 62 PB9/TIM4_CH4/I2C1_SDA/CANTX (io)
part B pins: 1 VBAT (power), 12 VSSA (power), 13 VDDA (power), 18 VSS_4 (power), 19 VDD_4 (power), 31 VSS_1 (power), 32 VDD_1 (power), 47 VSS_2 (power), 48 VDD_2 (power), 63 VSS_3 (power), 64 VDD_3 (power)
part A text: MCU; GPIO
part B text: Supply

## TAN_1UF_10%_35V_TAJB_AVX
designator C?, comment 10uF
STANDAARD TANTALUM CAPACITOR CASE-B; Manufacturer: AVX; Tolerance: 10%; Voltage: 35V; Bin_no: TAJB105K035R; UAC: 411434637; Revision: 09-02-2009; Package: TAJB; Value: 10uF; Status: CHECKED
footprint CAPMP3528X210N (Molded Capacitor, 2-Leads, Body 3.5x2.8mm, IPC Medium Density)
pins: 1, 2

## TAN_10UF_10%_16V_CASE_A_AVX
designator C?, comment 10uF
STANDAARD TANTALUM CAPACITOR CASE-A; Manufacturer: AVX; Tolerance: 10%; Voltage: 16V; Bin_no: TAJA106K016RNJ; UAC: 411434620; Revision: 22-09-2009; Package: CASE A; Rohs: Yes; Value: 10uF; Status: CHECKED; Created by: WB
footprint CAPMP3216X180N (Capacitor, SM Tantalum; Body 3.2 x 1.6 mm x 1.8mm)
pins: 1, 2

## TL431_SOT23
designator U?, comment TL431A
IC LINEAR - ANALOQUE_TL431AIDBZTG4_SOT23-3_TIN; ID: 348825; Altium Class: AAA058; UAC Item Group: ICSLIN; MFG: TIN; LCM Status: Mature; Item Ready: Yes; ArtGrpDescription: ICs; Case metric: 2.92x1.3x1; Pitch: 0.95; Description Full: 1-OUTPUT THREE TERM VOLTAGE REFERENCE  2.495 V  PDSO3; NContacts: 3; MFO: TL431AIDBZTG4; MFP: TL431AIDBZTG4; ROHS: Yes; Mount: SMT; Value: TL431A; Case: SOT23-; Function: IC LINEAR - ANALOQUE; Height: 1.12mm
footprint SOT95P237X112-3X60Y105C230N
pins: 1 CATHODE (power), 2 REF, 3 ANODE (power)

## UL_LOGO
designator UL?  (no BOM)
STANDAARD UL-LOGO 20 x 5 mm; Revision: 10-07-2008; Created by: CW; Status: CHECKED
footprint UL-LOGO (standaard ul-logo 20 X 5 mm)
text: UL-LOGO

## VOL_RS1-0505S10A1_RSG
designator U?, comment RS1-0505S10A1
DC-DC 1W UNREGULATED SINGLE OUTPUT; Manufacturer: RSG ELECTRONIC COMPONENTS; UAC: 420232760; Value: RS1-0505S10A1; Package: SIP4_RSG; Revision: 12-06-2013; Bin_no: RS1-0505S10A1; Status: CHECKED; Created by: CW
footprint SIP4_RSG (4 Pin SIL Package pitch 2.54mm)
pins: 1 -VIN (power), 2 +VIN (power), 3 -VOUT, 4 +VOUT
text: DC-DC

## VOL_TPS73033DBVT_TEXAS
designator U?, comment TPS73033
ULTRALOW-NOISE HIGH PSSR FAST RF 200mA REGULATOR; Manufacturer: TEXAS INSTRUMENTS; UAC: 412265940; Bin_no: TPS73033DBVT; Package: SOT23-5; Value: TPS73033; Status: CHECKED; Revision: 19-01-2011; Created by: CW
footprint SOT95P280X145-5X60Y110C260N (SOT23, 5-Leads, Body 3.0x3.0mm (max), Pitch 0.95mm, IPC Medium Density)
pins: 1 IN, 2 GND (power), 3 EN (in), 4 NR, 5 OUTPUT (out)
text: 3V3 LDO

## withthegrid logo
designator LOGO?  (value not drawn)
footprint withthegrid logo

## WTG-CMD
designator U?
PartNumber: WTG-CMD
footprint WTG-CMD
pins: 0 spacer (GND), 1 GND (power), 2 VCC (power), 3 GND (power), 4 VCC (power), 5 CM1,RI (out), 6 VCC_HOST (power) "Host (MCU) VCC for logic voltage translation", 7 CM1,DTR (in), 8 RSVD, 9 CM1,RTS (in), 10 RSVD, 11 CM1,CTS (out), 12 CM2,IRQ (out), 13 CM1,TXD (in), 14 CM2,SDA (io), 15 CM1,RXD (out), 16 CM2,SCL (in), 17 CM1,PWR_ON (in), 18 CM2,PWR_ON (in), 19 CM1,~{RESET} (in), 20 CM2,~{RESET} (in)
text: 2,4

## ZEN_BZD27C3V6P_VISHAY
designator Z?, comment BZD27C3V6P
ZENER DIODES WITH SURGE CURRENT SPECIFICATION; Manufacturer: VISHAY; UAC: 412156002; Revision: 18-11-2010; Package: DO-219AB; Bin_no: BZD27C3V6P; RoHs: Yes; Status: CHECKED; Value: BZD27C3V6P; Created by: WB
footprint SODFL3718X108X122Y112C320N (SODFL Diode;2.80mm W X 1.80mm L X 1.08mm H body)
pins: 1, 2

## ZEN_PTVS10VS1UR_NXP
designator Z?, comment 10V
400W TRANSIENT VOLTAGE SUPPRESSOR SOD123W; Manufacturer: NXP; Bin_no: PTVS10VS1UR; UAC: 420125246; Revision: 21-09-2012; Package: SOD123W; Created by: CW; Status: CHECKED; Value: 10V
footprint SODFL3517X120X120Y92C280N (SODFL, 2-Leads, Body 3.7x1.9mm (max), IPC Medium Density)
pins: 1, 2